# EAGLE library part L293 (library MCE_CircuitosIntegrados)
PUSH-PULL 4 CHANNEL DRIVER
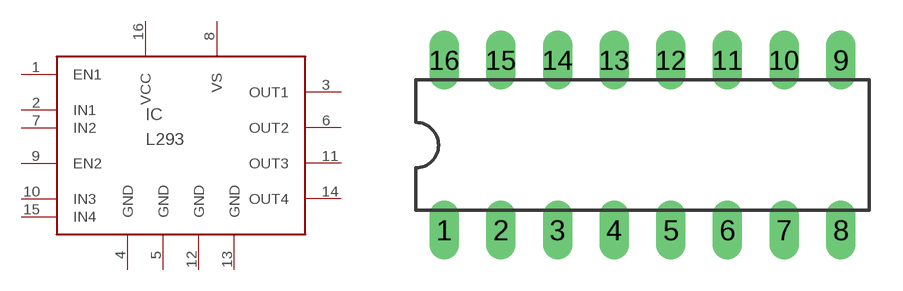
[diagram p3: symbol with the pads of DIL16; footprint DIL16]

Designator prefix IC

## L293  [DIL16]
1  EN1  in
2  IN1  in
3  OUT1  out
4  GND  pwr
5  GND  pwr
6  OUT2  out
7  IN2  in
8  VS  pwr
9  EN2  in
10  IN3  in
11  OUT3  out
12  GND  pwr
13  GND  pwr
14  OUT4  out
15  IN4  in
16  VCC  pwr

## Footprint DIL16 (pad centres in mm)
Dual In Line Package
drill 0.813 long: 1 -8.89,-3.81; 2 -6.35,-3.81; 3 -3.81,-3.81; 4 -1.27,-3.81; 5 1.27,-3.81; 6 3.81,-3.81; 7 6.35,-3.81; 8 8.89,-3.81; 9 8.89,3.81; 10 6.35,3.81; 11 3.81,3.81; 12 1.27,3.81; 13 -1.27,3.81; 14 -3.81,3.81; 15 -6.35,3.81; 16 -8.89,3.81